# Altium integrated library M20-7910242R.IntLib: 1 symbol
Pins are listed as number, name and electrical type; pins without a type are passive.

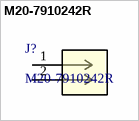
[diagram p0: symbol M20-7910242R]

## M20-7910242R
designator J?
No Description Available; Mfr_Name: Harwin; Copyright: Copyright (C) 2023 Ultra Librarian. All rights reserved.; Manufacturer_Part_Number: M20-7910242R; RefDes: RefDes; Type: DEV
footprint CONN2_910242R_HRW
pins: 1, 2